# Altium footprint library SMPS PcbLib.PcbLib: 33 footprints (part 2 of 3)
Each footprint in its own frame and in the unit in brackets; x right, y up, seen from the top. Pads: shape width x height; smd on the part's side, far side on the other; paste and mask are expansions set on the pad; w line width, h text height; cw(c..) or ccw(c..) is an arc to the next point about the centre after c.
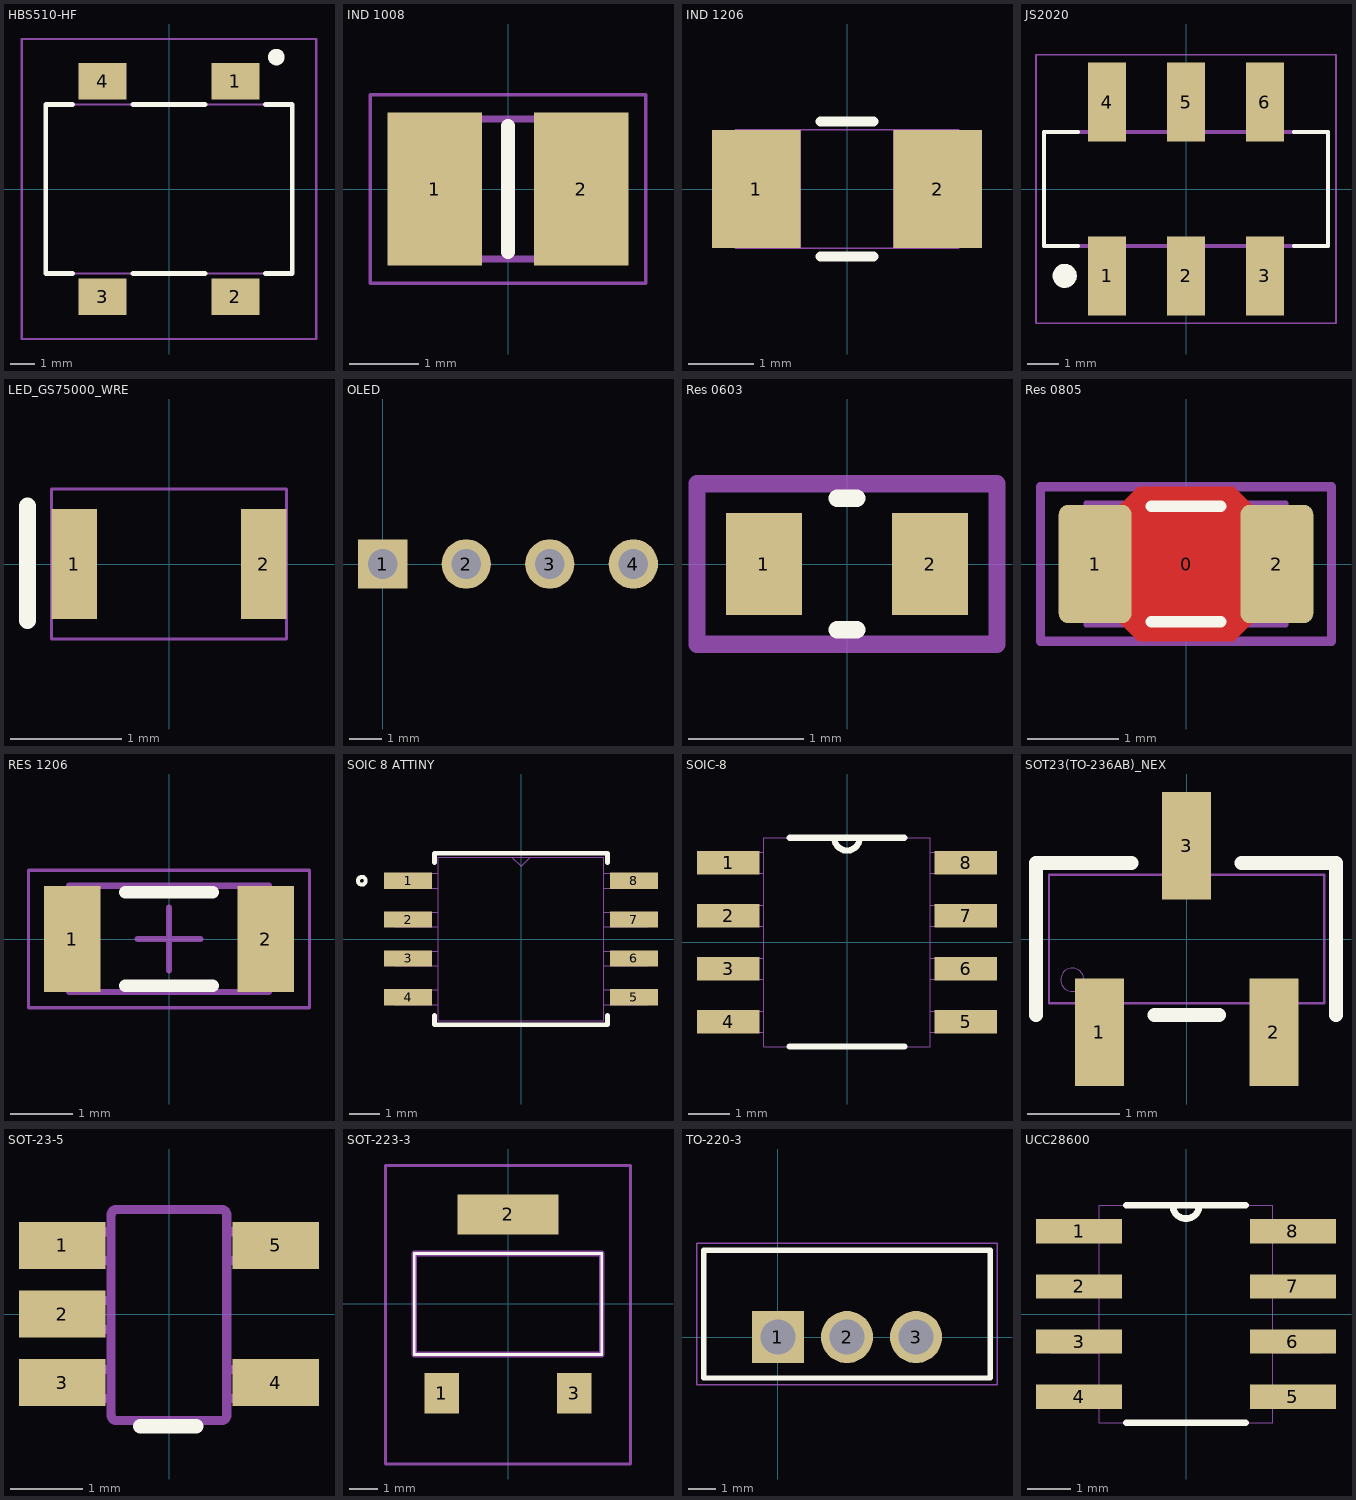
[diagram p1: the footprints below, top view; thin cyan lines are the x and y axes]

## HBS510-HF [mm]
pads (4):
  rect 2x1.5 smd: 1(2.75,4.46) 2(2.75,-4.46) 3(-2.75,-4.46) 4(-2.75,4.46)
Top Overlay:
  circle w0.381: c4.445,5.461 r0.152
  lines w0.2: -4,-3.5 -5.1,-3.5 -5.1,3.5 -4,3.5 ; -1.5,-3.5 1.5,-3.5 ; -1.5,3.5 1.5,3.5 ; 4,-3.5 5.1,-3.5 5.1,3.5 4,3.5
Top Courtyard:
  lines w0.1: -5.1,-3.5 -5.1,3.5 5.1,3.5 5.1,-3.5 -5.1,-3.5
Mechanical 20:
  lines w0.1: -6.1,-6.21 -6.1,6.21 6.1,6.21 6.1,-6.21 -6.1,-6.21
3D body "HBS510-HF.stp": height 1.79, standoff -0.01, extent -5.1,-4.95 5.1,4.95

## IND 1008 [mm]
pads (2):
  rect 1.35x2.2 smd: 1(-1.05,0) 2(1.05,0)
Top Overlay:
  lines w0.2: 0,-0.9 0,0.9
Top Courtyard:
  lines w0.1: -1.25,-1 1.25,-1 1.25,1 -1.25,1 -1.25,-1
Mechanical 20:
  lines w0.05: -1.975,-1.35 1.975,-1.35 1.975,1.35 -1.975,1.35 -1.975,-1.35
3D body "744383230068.stp": height 1, standoff 0, extent -1.25,-1 1.25,1

## IND 1206 [mil]
pads (2):
  rect 53x71 smd paste+0 mask+0: 1(-54.5,0) 2(54.5,0)
Top Overlay:
  lines w6: -15.89,-40.5 15.89,-40.5 ; -15.89,40.5 15.89,40.5
Top 3D Body:
  lines w1: -67,-35.5 -67,35.5 ; -67,-35.5 67,-35.5 ; -67,-35.5 -28,-35.5 -28,35.5 -67,35.5 ; -67,-35.5 -67,35.5 ; -67,35.5 67,35.5 ; 67,-35.5 67,35.5 ; 67,-35.5 67,35.5 ; 67,-35.5 28,-35.5 28,35.5 67,35.5
3D body "IND_25_1206_FRT.step": height 50.98, standoff 0, extent -67.01,-35.51 67.01,35.51

## JS2020 [mm]
pads (6):
  rect 1.2x2.5 smd: 1(-2.5,-2.75) 2(0,-2.75) 3(2.5,-2.75) 4(-2.5,2.75) 5(0,2.75) 6(2.5,2.75)
Top Overlay:
  circle w0.2: c-3.84,-2.75 r0.1
  circle w0.254: c-3.84,-2.75 r0.254
  lines w0.127: -3.42,-1.8 -4.5,-1.8 -4.5,1.8 -3.42,1.8 ; 3.42,-1.8 4.5,-1.8 4.5,1.8 3.42,1.8
Top 3D Body:
  lines w0.127: -4.5,-1.8 4.5,-1.8 4.5,1.8 -4.5,1.8 -4.5,-1.8
Top Courtyard:
  lines w0.05: -4.75,-4.25 -4.75,4.25 4.75,4.25 4.75,-4.25 -4.75,-4.25
3D body "JS202011SCQN--3DModel-STEP-269445.STEP": height 5.51, standoff 0, extent -4.496,-3.746 4.496,3.746

## LED_GS75000_WRE [mil]
pads (2):
  rect 16x39 smd paste+0 mask+0: 1(-33.5,0) 2(33.5,0)
Top Overlay:
  lines w6: -50,-20 -50,20.49
Top 3D Body:
  lines w1: -41.5,-26.5 41.5,-26.5 41.5,26.5 -41.5,26.5 -41.5,-26.5
3D body "LED_GS75000_WRE.step": height 32.01, standoff 0, extent -41.5,-26.61 41.5,26.61

## OLED [mm]
pads (4):
  rect 1.5x1.5 hole 0.9: 1(0,0)
  round 1.5 hole 0.9: 2(2.54,0) 3(5.08,0) 4(7.62,0)
3D body "0901471104.stp": height 8.7, standoff -3.1, extent -1.195,-1.22 8.815,1.22
3D body "OSSD-128x64.x_b": height 15.08, standoff 9.98, extent -8.792,-24.501 16.208,1.499
3D body "4 pin header male point 100 pitch.step": height 13.48, standoff -0.3, extent -1.27,-1.25 8.73,1.25

## Res 0603 [mil]
pads (2):
  rect 26x35 smd paste+0 mask+0: 1(-28.5,0) 2(28.5,0)
Top Overlay:
  lines w6: -3.39,-22.5 3.39,-22.5 ; -3.39,22.5 3.39,22.5
Top Courtyard:
  lines w6: -51.5,-27.5 51.5,-27.5 51.5,27.5 -51.5,27.5 -51.5,-27.5
3D body "RES_KDV06_OHM.step": height 22.01, standoff 0, extent -33.5,-17.48 33.5,17.48

## Res 0805 [mm] "Chip Resistor 0805 (2012 Metric) Moisture Resistant Thick Film"
pads (3):
  round 0.254 on Mech15: 0(0,0)
  rrect25% 0.8x1.3 smd: 1(-1,0) 2(1,0)
Top Layer:
  pour cut-out: -0.725,0.65 -0.525,0.85 0.525,0.85 0.725,0.65 0.725,-0.65 0.525,-0.85 -0.525,-0.85 -0.725,-0.65
Top Overlay:
  lines w0.127: -0.381,-0.635 0.381,-0.635 ; -0.381,0.635 0.381,0.635
Top 3D Body:
  lines w0.05: 0.6,-0.674 -0.6,-0.674 ; -0.6,-0.675 -0.6,0.675 -1.1,0.675 -1.1,-0.675 -0.6,-0.675 ; -0.6,-0.674 0.6,-0.674 ; 0.6,-0.675 0.6,0.675 ; 0.6,-0.675 1.1,-0.675 1.1,0.675 0.6,0.675 ; 0.6,0.674 -0.6,0.674 0.6,0.674
Top Courtyard:
  lines w0.1: -1.6,-0.85 1.6,-0.85 1.6,0.85 -1.6,0.85 -1.6,-0.85
3D body "RES 0805 (2012 metric).STEP": height 0.69, standoff -0.01, extent -1.1,-0.751 1.1,0.599

## RES 1206 [mm] "Chip Resistor, 2-Leads, Body 3.20x1.65mm, IPC Medium Density"
height 0.56
pads (2):
  rect 0.9x1.7 smd: 1(-1.55,0) 2(1.55,0)
Top Overlay:
  lines w0.2: -0.7,-0.75 0.7,-0.75 ; -0.7,0.75 0.7,0.75
Top Assembly:
  lines w0.1: -1.6,-0.85 1.6,-0.85 1.6,0.85 -1.6,0.85 -1.6,-0.85
Top Courtyard:
  lines w0.05: -2.25,-1.1 2.25,-1.1 2.25,1.1 -2.25,1.1 -2.25,-1.1
  lines w0.1: -0.5,0 0.5,0 ; 0,-0.5 0,0.5
3D body "RESC3216X06N.step": height 0.56, standoff 0, extent -1.6,-0.85 1.6,0.85

## SOIC 8 ATTINY [mil]
pads (8):
  rect 62x21 smd paste+0 mask+0: 1(-145.5,75) 2(-145.5,25) 3(-145.5,-25) 4(-145.5,-75) 5(145.5,-75) 6(145.5,-25) 7(145.5,25) 8(145.5,75)
Top Overlay:
  circle w5: c-205,75 r5
  lines w6: -111.5,-98.25 -111.5,-110.5 111.5,-110.5 111.5,-98.25 ; -111.5,98.25 -111.5,110.5 111.5,110.5 111.5,98.25
Top 3D Body:
  lines w1: -12,105.5 0,93.5 12,105.5 ; -162.5,-84.5 -106.5,-84.5 -106.5,-65.5 -162.5,-65.5 -162.5,-84.5 ; -162.5,-34.5 -106.5,-34.5 -106.5,-15.5 -162.5,-15.5 -162.5,-34.5 ; -162.5,15.5 -106.5,15.5 -106.5,34.5 -162.5,34.5 -162.5,15.5 ; -162.5,65.5 -106.5,65.5 -106.5,84.5 -162.5,84.5 -162.5,65.5 ; -106.5,-105.5 -106.5,105.5 106.5,105.5 106.5,-105.5 -106.5,-105.5 ; 106.5,-84.5 162.5,-84.5 162.5,-65.5 106.5,-65.5 106.5,-84.5 ; 106.5,-34.5 162.5,-34.5 162.5,-15.5 106.5,-15.5 106.5,-34.5 ; 106.5,15.5 162.5,15.5 162.5,34.5 106.5,34.5 106.5,15.5 ; 106.5,65.5 162.5,65.5 162.5,84.5 106.5,84.5 106.5,65.5
3D body "8S2_ATM.step": height 85.16, standoff 0, extent -162.52,-105.51 162.52,105.51

## SOIC-8 [mil]
pads (8):
  rect 59.06x22 smd paste-39 mask-39: 1(-112,75) 2(-112,25) 3(-112,-25) 4(-112,-75) 5(112,-75) 6(112,-25) 7(112,25) 8(112,75)
Top Overlay:
  lines w6: -54.08,-98.5 54.08,-98.5 ; -54.08,98.5 54.08,98.5 ; -12,98.5 ccw(c0,98.5) 12,98.5
Top 3D Body:
  lines w0: -12,98.5 ccw(c0,98.5) 12,98.5
  lines w1: -122,-85 -78.5,-85 -78.5,-65 -122,-65 -122,-85 ; -122,-35 -78.5,-35 -78.5,-15 -122,-15 -122,-35 ; -122,15 -78.5,15 -78.5,35 -122,35 -122,15 ; -122,65 -78.5,65 -78.5,85 -122,85 -122,65 ; -78.5,-98.5 -78.5,98.5 78.5,98.5 78.5,-98.5 -78.5,-98.5 ; 78.5,-85 122,-85 122,-65 78.5,-65 78.5,-85 ; 78.5,-35 122,-35 122,-15 78.5,-15 78.5,-35 ; 78.5,15 122,15 122,35 78.5,35 78.5,15 ; 78.5,65 122,65 122,85 78.5,85 78.5,65
3D body "D8.step": height 69.09, standoff 0, extent -122.01,-98.5 122.01,98.5

## SOT23(TO-236AB)_NEX [mil]
pads (3):
  rect 21x46 smd paste+0 mask+0: 1(-37.4,-40) 2(37.4,-40) 3(0,40)
Top Overlay:
  lines w6: -64.58,-32.5 -64.58,32.5 -23.6,32.5 ; -13.8,-32.5 13.8,-32.5 ; 23.6,32.5 64,32.5 64,-32.5
Top 3D Body:
  circle w0: c-49,-17.5 r5
  lines w1: -59,-27.5 -59,27.5 59,27.5 59,-27.5 -59,-27.5 ; -46.9,-49 -27.9,-49 -27.9,-27.5 -46.9,-27.5 -46.9,-49 ; -9.5,27.5 -9.5,49 9.5,49 9.5,27.5 -9.5,27.5 ; 27.9,-49 46.9,-49 46.9,-27.5 27.9,-27.5 27.9,-49
3D body "SOT23TO-236AB_NEX.step": height 43.11, standoff 0, extent -59.02,-49.02 59.02,49.02

## SOT-23-5 [mm]
pads (5):
  rect 1.2x0.65 smd paste+0 mask+0.051: 1(-1.475,0.95) 2(-1.475,0) 3(-1.475,-0.95) 4(1.475,-0.95) 5(1.475,0.95)
Top Overlay:
  lines w0.2: -0.4,-1.55 0.375,-1.55
Top 3D Body:
  lines w0.127: -0.801,1.371 cw(c-0.725,1.37) -0.725,1.446 ; -0.801,1.37 -0.801,1.371 ; -0.801,1.37 -0.801,-1.399 -0.801,-1.4 ccw(c-0.725,-1.399) -0.725,-1.475 ; -0.725,-1.475 0.723,-1.475 0.724,-1.475 ccw(c0.723,-1.399) 0.799,-1.4 0.799,-1.399 0.799,1.37 ; -0.725,-1.475 -0.725,-1.475 ; -0.725,1.446 -0.725,1.446 ; -0.725,1.446 0.723,1.446 0.724,1.446 cw(c0.723,1.37) 0.799,1.371 ; 0.799,1.37 0.799,1.371 ; -1.423,-1.167 -1.423,-0.767 -1.199,-0.767 -1.105,-0.767 -1.088,-0.767 -0.835,-0.767 -0.801,-0.767 -0.801,-1.167 -0.835,-1.167 -1.088,-1.167 -1.105,-1.167 -1.199,-1.167 -1.423,-1.167 ; -1.423,-0.215 -1.423,0.186 -1.199,0.186 -1.105,0.186 -1.088,0.186 -0.835,0.186 -0.801,0.186 -0.801,-0.215 -0.835,-0.215 -1.088,-0.215 -1.105,-0.215 -1.199,-0.215 -1.423,-0.215 ; -1.423,0.738 -1.423,1.138 -1.199,1.138 -1.105,1.138 -1.088,1.138 -0.835,1.138 -0.801,1.138 -0.801,0.738 -0.835,0.738 -1.088,0.738 -1.105,0.738 -1.199,0.738 -1.423,0.738 ; 0.799,-1.167 0.834,-1.167 1.087,-1.167 1.103,-1.167 1.198,-1.167 1.422,-1.167 1.422,-0.767 1.198,-0.767 1.103,-0.767 1.087,-0.767 0.834,-0.767 0.799,-0.767 0.799,-1.167 ; 0.799,0.738 0.834,0.738 1.087,0.738 1.103,0.738 1.198,0.738 1.422,0.738 1.422,1.138 1.198,1.138 1.103,1.138 1.087,1.138 0.834,1.138 0.799,1.138 0.799,0.738
3D body "INA180A3IDBVR.stp": height 1.2, standoff 0, extent -1.4,-1.45 1.4,1.45

## SOT-223-3 [mm]
pads (3):
  rect 1.2x1.4 smd: 1(-2.3,-3.1) 3(2.3,-3.1)
  rect 3.5x1.4 smd: 2(0,3.1)
Top Overlay:
  lines w0.1: -3.25,-1.75 -3.25,1.75 3.25,1.75 3.25,-1.75 -3.25,-1.75
Top Courtyard:
  lines w0.2: -3.25,-1.75 -3.25,1.75 3.25,1.75 3.25,-1.75 -3.25,-1.75
Mechanical 20:
  lines w0.1: -4.25,-5.55 -4.25,4.8 4.25,4.8 4.25,-5.55 -4.25,-5.55
3D body "IPN80R750P7ATMA1.stp": height 1.6, standoff -0.06, extent -3.25,-3.536 3.25,3.536

## TO-220-3 [mm]
pads (3):
  rect 1.92x1.92 / inner round 1.92 / far side rect 1.92x1.92 hole 1.28: 1(0,0)
  round 1.92 hole 1.28: 2(2.54,0) 3(5.08,0)
Top Overlay:
  lines w0.2: -2.73,-1.504 7.81,-1.504 ; -2.731,-1.495 -2.731,3.195 7.81,3.195 7.81,-1.495
Top Courtyard:
  lines w0.1: -2.731,-1.495 -2.731,3.195 7.81,3.195 7.81,-1.495
Mechanical 20:
  lines w0.05: -2.98,-1.745 -2.98,3.445 8.06,3.445 8.06,-1.745 -2.98,-1.745
3D body "IRFZ24NPBF.stp": height 18.84, standoff -17.51, extent -2.667,-1.495 7.748,3.195

## UCC28600 [mil]
pads (8):
  rect 78x22 smd paste-39 mask-39: 1(-97,75) 2(-97,25) 3(-97,-25) 4(-97,-75) 5(97,-75) 6(97,-25) 7(97,25) 8(97,75)
Top Overlay:
  lines w6: -54.08,-98.5 54.08,-98.5 ; -54.08,98.5 54.08,98.5 ; -12,98.5 ccw(c0,98.5) 12,98.5
Top 3D Body:
  lines w0: -12,98.5 ccw(c0,98.5) 12,98.5
  lines w1: -122,-85 -78.5,-85 -78.5,-65 -122,-65 -122,-85 ; -122,-35 -78.5,-35 -78.5,-15 -122,-15 -122,-35 ; -122,15 -78.5,15 -78.5,35 -122,35 -122,15 ; -122,65 -78.5,65 -78.5,85 -122,85 -122,65 ; -78.5,-98.5 -78.5,98.5 78.5,98.5 78.5,-98.5 -78.5,-98.5 ; 78.5,-85 122,-85 122,-65 78.5,-65 78.5,-85 ; 78.5,-35 122,-35 122,-15 78.5,-15 78.5,-35 ; 78.5,15 122,15 122,35 78.5,35 78.5,15 ; 78.5,65 122,65 122,85 78.5,85 78.5,65
3D body "D8.step": height 69.09, standoff 0, extent -122.01,-98.5 122.01,98.5